# Altium footprint library ESP32-PICO-D4.PcbLib: 1 footprints
Each footprint in its own frame and in the unit in brackets; x right, y up, seen from the top. Pads: shape width x height; smd on the part's side, far side on the other; paste and mask are expansions set on the pad; w line width, h text height; cw(c..) or ccw(c..) is an arc to the next point about the centre after c.
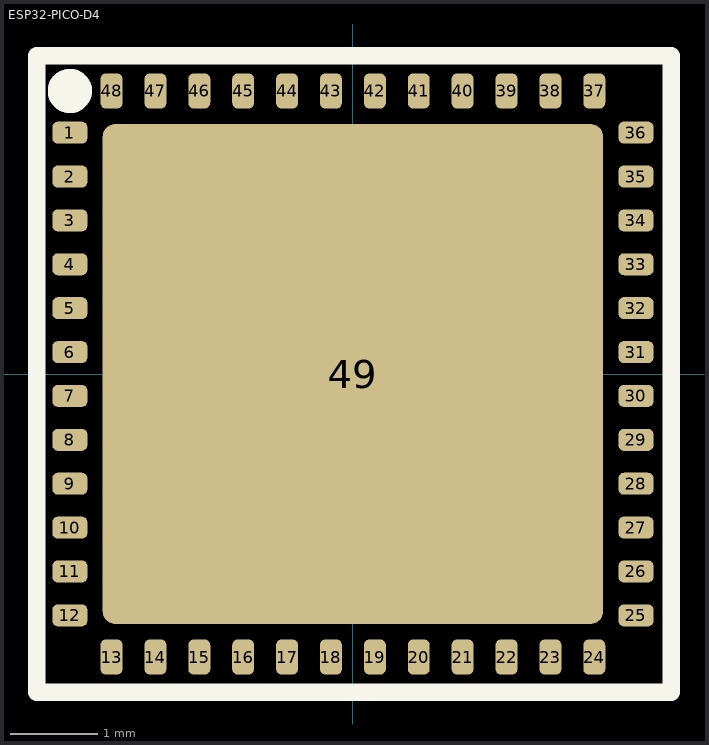
[diagram p0: the footprint, top view; thin cyan lines are the x and y axes]

## ESP32-PICO-D4 [mm]
pads (49):
  rrect50% 0.4x0.25 smd paste+0 mask+0.05: 1(-3.225,2.75) 2(-3.225,2.25) 3(-3.225,1.75) 4(-3.225,1.25) 5(-3.225,0.75) 6(-3.225,0.25) 7(-3.225,-0.25) 8(-3.225,-0.75) 9(-3.225,-1.25) 10(-3.225,-1.75) 11(-3.225,-2.25) 12(-3.225,-2.75) 25(3.225,-2.75) 26(3.225,-2.25) 27(3.225,-1.75) 28(3.225,-1.25) 29(3.225,-0.75) 30(3.225,-0.25) 31(3.225,0.25) 32(3.225,0.75) 33(3.225,1.25) 34(3.225,1.75) 35(3.225,2.25) 36(3.225,2.75)
  rrect50% 0.25x0.4 smd paste+0 mask+0.05: 13(-2.75,-3.225) 14(-2.25,-3.225) 15(-1.75,-3.225) 16(-1.25,-3.225) 17(-0.75,-3.225) 18(-0.25,-3.225) 19(0.25,-3.225) 20(0.75,-3.225) 21(1.25,-3.225) 22(1.75,-3.225) 23(2.25,-3.225) 24(2.75,-3.225) 37(2.75,3.225) 38(2.25,3.225) 39(1.75,3.225) 40(1.25,3.225) 41(0.75,3.225) 42(0.25,3.225) 43(-0.25,3.225) 44(-0.75,3.225) 45(-1.25,3.225) 46(-1.75,3.225) 47(-2.25,3.225) 48(-2.75,3.225)
  rrect5% 5.7x5.7 smd paste+0 mask+0.05: 49(0,0)
Top Overlay:
  circle w0.254: c-3.225,3.225 r0.125
  lines w0.2: -3.6,-3.625 3.625,-3.625 3.625,3.625 -3.6,3.625 -3.6,-3.625
Top Assembly:
  circle w0.254: c-3.225,3.225 r0.125
  lines w0.1: -3.6,-3.625 -3.6,3.625 3.625,3.625 3.625,-3.625 -3.6,-3.625
  text "'.Designator'" at -1,-0.3 h0.7
3D body "7x7x1.stp": height 1, standoff 0, extent -3.5,-3.5 3.5,3.5